# Altium schematic symbol library Schlib1.SchLib: 1 symbol
Pins are listed as number, name and electrical type; pins without a type are passive.

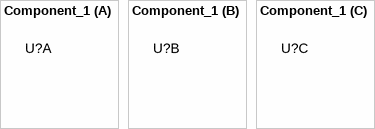
[diagram p0: symbol Component_1]

## Component_1
designator U?
footprint FP-D0008A-IPC_B
footprint FP-D0008A-IPC_A
footprint FP-D0008A-MFG
footprint FP-D0008A-IPC_C